# EAGLE library part TERM_6P (library LX_Eagle_Lib)
Standard 0.1" Pitch Terminal 6 Position
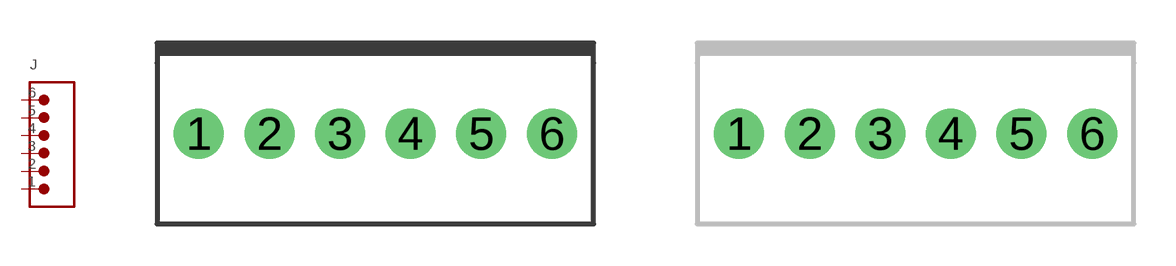
[diagram p2: symbol with the pads of 1X6-2.54; footprints 1X6-2.54, 1X6-2.54_NOSILK]

Designator prefix J

## TERM_6P_2.54  [1X6-2.54]
1  1  pas
2  2  pas
3  3  pas
4  4  pas
5  5  pas
6  6  pas

## TERM_6P_2.54_NOSILK  [1X6-2.54_NOSILK]
Pads as for 1X6-2.54

## Footprint 1X6-2.54 (pad centres in mm)
6 Pin Terminal 0.1" (2.54mm) pitch
drill 1.1 pad 1.8: 1 -6.35,0; 2 -3.81,0; 3 -1.27,0; 4 1.27,0; 5 3.81,0; 6 6.35,0

## Footprint 1X6-2.54_NOSILK (pad centres in mm)
6 Pin Terminal 0.1" (2.54mm) pitch (No Silkscreen)
drill 1.1 pad 1.8: 1 -6.35,0; 2 -3.81,0; 3 -1.27,0; 4 1.27,0; 5 3.81,0; 6 6.35,0